# Altium schematic symbol library MC7805CT_5V.SchLib: 1 symbol
Pins are listed as number, name and electrical type; pins without a type are passive.

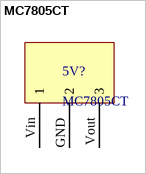
[diagram p0: symbol MC7805CT]

## MC7805CT
designator 5V?
MC7805CT 5V Linear Regulator
footprint MC7805CT_5V (MC7805CT 5V Linear voltage regulator)
pins: GND 2, Vin 1, Vout 3